# EAGLE library part ISP-ARM (library nxp-arm)
ISP Programming Connector - /ISP and /RST must have pull up on uC side - /ISP is P0.14 on the LPC21xx chips - RxD is receive from uC, uC should driveTxD - 3,3V and 0V is supplied by the uC board - key is missing pin on a header, corresponding filled in the female plug for a ASP (anti smoke protection:)
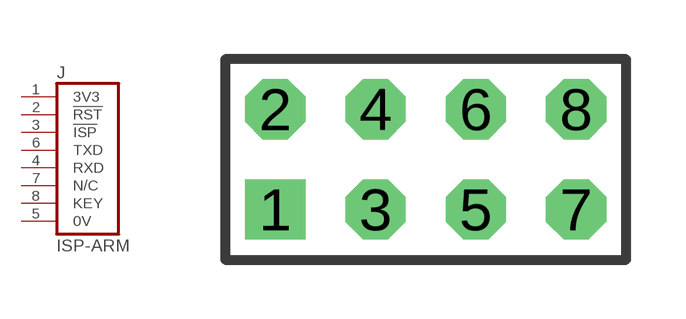
[diagram p8: symbol with the pads of ISP-ARM; footprint ISP-ARM]

Designator prefix J

## ISP-ARM  [ISP-ARM]
1  3V3  pas
2  !RST!  pas
3  !ISP!  pas
4  RXD  pas
5  0V  pas
6  TXD  pas
7  N/C  pas
8  KEY  pas

## Footprint ISP-ARM (pad centres in mm)
PIN HEADER
drill 1.016 square: 1 -3.81,-1.27
drill 1.016 octagon: 2 -3.81,1.27; 3 -1.27,-1.27; 4 -1.27,1.27; 5 1.27,-1.27; 6 1.27,1.27; 7 3.81,-1.27; 8 3.81,1.27